# Altium schematic symbol library SCH.SchLib: 8 symbols
Pins are listed as number, name and electrical type; pins without a type are passive.

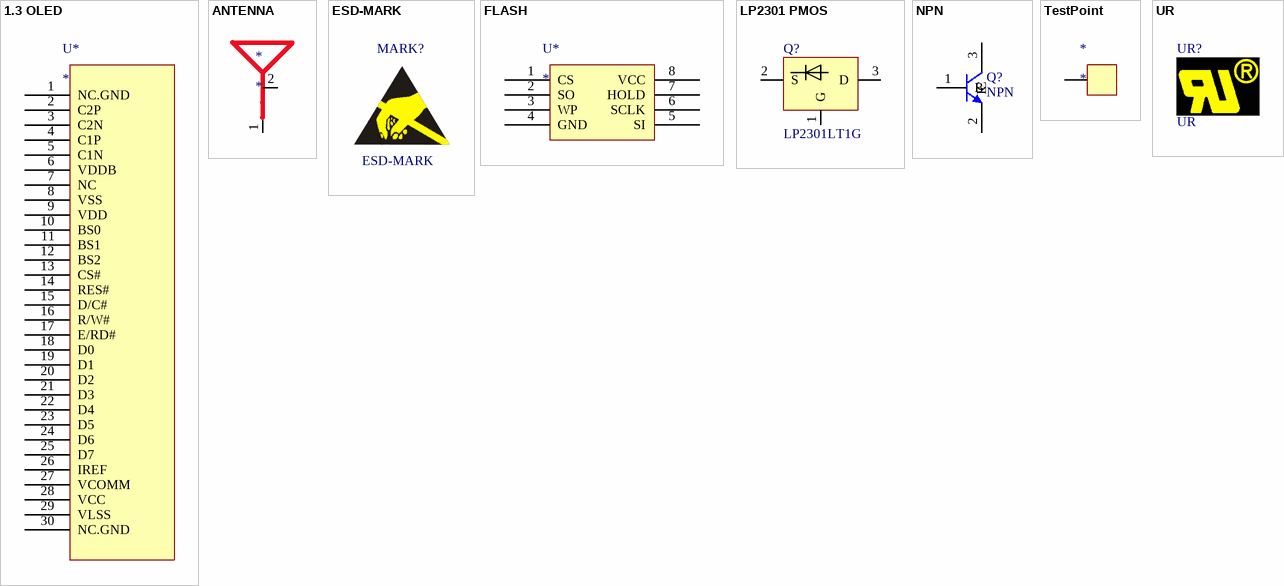
[diagram p0: symbols 1.3 OLED to UR]

## 1.3 OLED
designator U*
pins: 1 NC.GND, 2 C2P, 3 C2N, 4 C1P, 5 C1N, 6 VDDB, 7 NC, 8 VSS, 9 VDD, 10 BS0, 11 BS1, 12 BS2, 13 CS#, 14 RES#, 15 D/C#, 16 R/W#, 17 E/RD#, 18 D0, 19 D1, 20 D2, 21 D3, 22 D4, 23 D5, 24 D6, 25 D7, 26 IREF, 27 VCOMM, 28 VCC, 29 VLSS, 30 NC.GND

## ANTENNA
designator *
pins: 1, 2

## ESD-MARK
designator MARK?  (no BOM)
footprint ZY_ESD-7
2 alternate drawings of the same symbol

## FLASH
designator U*
pins: 1 CS, 2 SO, 3 WP, 4 GND, 5 SI, 6 SCLK, 7 HOLD, 8 VCC

## LP2301 PMOS
designator Q?, comment LP2301LT1G
footprint SOT-23
pins: 1 G, 2 S, 3 D

## NPN
designator Q?
S8050; Published: 8-Jun-2000; LatestRevisionDate: 17-Jul-2002; LatestRevisionNote: Re-released for DXP Platform.; PackageReference: TO-226; Publisher: Altium Limited; Code_JEDEC: TO-226-AA
simulation model NPN
signal-integrity model NPN
footprint SOT-23
pins: 1 B, 2 E, 3 C

## TestPoint
designator *
pins: 1

## UR
designator UR?  (no BOM)
footprint ZY_UR-3X2
footprint ZY_UR-4X3